# EAGLE library part A4988_STEPPER_MOTOR_DRIVER_CARRIER (library A4988_STEPPER_MOTOR_DRIVER_CARRIER)
Stepper motor controler; IC: A4988; 1A; Uin mot: 8÷35V
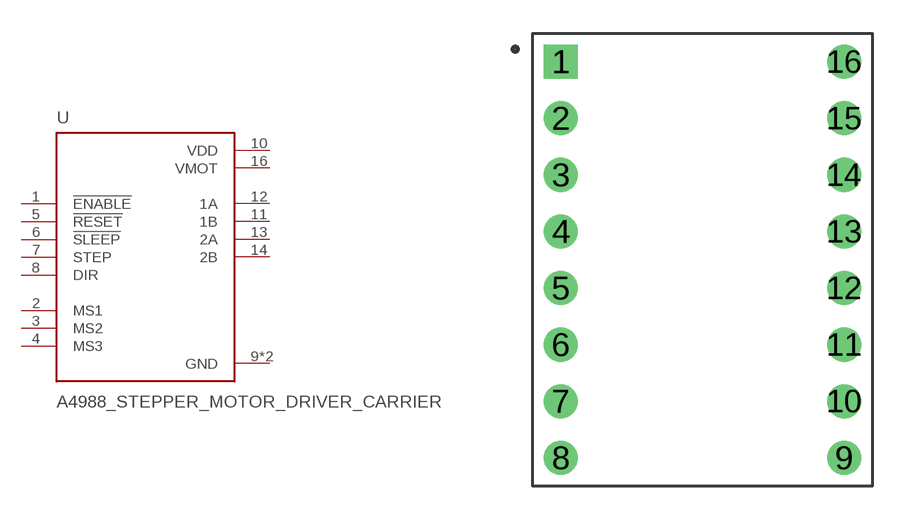
[diagram p0: symbol with the pads of MODULE_A4988_STEPPER_MOTOR_DRIVER_CARRIER; footprint MODULE_A4988_STEPPER_MOTOR_DRIVER_CARRIER]

Designator prefix U

## A4988_STEPPER_MOTOR_DRIVER_CARRIER (Availability: Unavailable; Description: Stepper Motor Driver; MF: Pololu; MP: A4988 STEPPER MOTOR DRIVER CARRIER; Package: None; Price: None)  [MODULE_A4988_STEPPER_MOTOR_DRIVER_CARRIER]
1  !ENABLE  in
2  MS1  in
3  MS2  in
4  MS3  in
5  !RESET  in
6  !SLEEP  in
7  STEP  in
8  DIR  in
9  GND  pwr
10  VDD  pwr
11  1B  out
12  1A  out
13  2A  out
14  2B  out
15  GND  pwr
16  VMOT  pwr

## Footprint MODULE_A4988_STEPPER_MOTOR_DRIVER_CARRIER (pad centres in mm)
drill 1.02 square: 1 -6.35,8.89
drill 1.02: 2 -6.35,6.35; 3 -6.35,3.81; 4 -6.35,1.27; 5 -6.35,-1.27; 6 -6.35,-3.81; 7 -6.35,-6.35; 8 -6.35,-8.89; 9 6.35,-8.89; 10 6.35,-6.35; 11 6.35,-3.81; 12 6.35,-1.27; 13 6.35,1.27; 14 6.35,3.81; 15 6.35,6.35; 16 6.35,8.89